# Altium footprint library ErkitPackage.PcbLib: 46 footprints (part 2 of 3)
Each footprint in its own frame and in the unit in brackets; x right, y up, seen from the top. Pads: shape width x height; smd on the part's side, far side on the other; paste and mask are expansions set on the pad; w line width, h text height; cw(c..) or ccw(c..) is an arc to the next point about the centre after c.
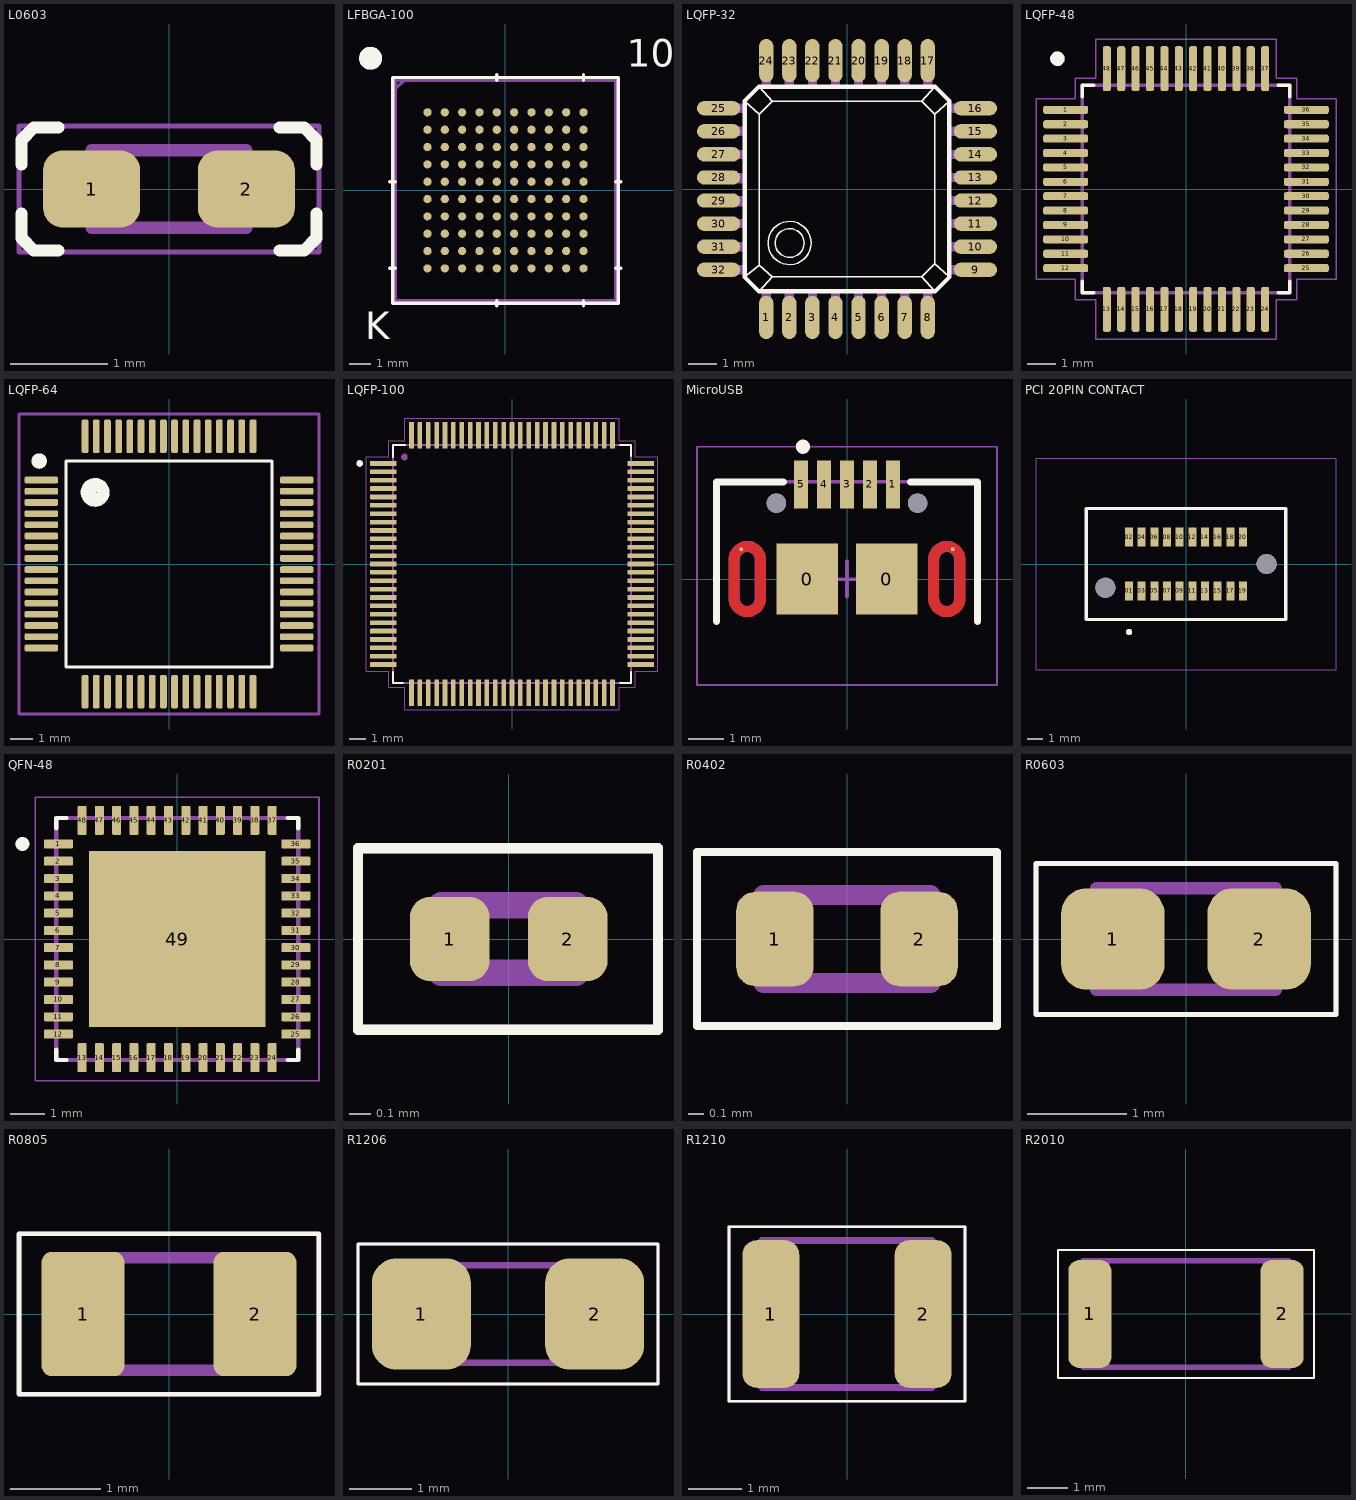
[diagram p1: the footprints below, top view; thin cyan lines are the x and y axes]

## L0603 [mm]
pads (2):
  rrect50% 1x0.8 smd: 1(-0.8,0) 2(0.8,0)
Top Overlay:
  lines w0.127: -1.524,-0.254 -1.524,-0.508 -1.397,-0.635 -1.143,-0.635 ; -1.524,0.254 -1.524,0.508 -1.397,0.635 -1.143,0.635 ; 1.143,-0.635 1.397,-0.635 1.524,-0.508 1.524,-0.254 ; 1.143,0.635 1.397,0.635 1.524,0.508 1.524,0.254
Mechanical 13:
  lines w0.127: -0.8,-0.4 0.8,-0.4 0.8,0.4 -0.8,0.4 -0.8,-0.4
Mechanical 15:
  lines w0.05: -1.55,-0.65 1.55,-0.65 1.55,0.65 -1.55,0.65 -1.55,-0.65
3D body "step_temp.STEP": height 0.95, standoff 0, extent -0.8,-0.4 0.8,0.4

## LFBGA-100 [mm]
pads (100):
  round 0.381 smd: A1(-3.6,3.6) A2(-2.8,3.6) A3(-2,3.6) A4(-1.2,3.6) A5(-0.4,3.6) A6(0.4,3.6) A7(1.2,3.6) A8(2,3.6) A9(2.8,3.6) A10(3.6,3.6) B1(-3.6,2.8) B2(-2.8,2.8) B3(-2,2.8) B4(-1.2,2.8) B5(-0.4,2.8) B6(0.4,2.8) B7(1.2,2.8) B8(2,2.8) B9(2.8,2.8) B10(3.6,2.8) C1(-3.6,2) C2(-2.8,2) C3(-2,2) C4(-1.2,2) C5(-0.4,2) C6(0.4,2) C7(1.2,2) C8(2,2) C9(2.8,2) C10(3.6,2) D1(-3.6,1.2) D2(-2.8,1.2) D3(-2,1.2) D4(-1.2,1.2) D5(-0.4,1.2) D6(0.4,1.2) D7(1.2,1.2) D8(2,1.2) D9(2.8,1.2) D10(3.6,1.2) E1(-3.6,0.4) E2(-2.8,0.4) E3(-2,0.4) E4(-1.2,0.4) E5(-0.4,0.4) E6(0.4,0.4) E7(1.2,0.4) E8(2,0.4) E9(2.8,0.4) E10(3.6,0.4) F1(-3.6,-0.4) F2(-2.8,-0.4) F3(-2,-0.4) F4(-1.2,-0.4) F5(-0.4,-0.4) F6(0.4,-0.4) F7(1.2,-0.4) F8(2,-0.4) F9(2.8,-0.4) F10(3.6,-0.4) G1(-3.6,-1.2) G2(-2.8,-1.2) G3(-2,-1.2) G4(-1.2,-1.2) G5(-0.4,-1.2) G6(0.4,-1.2) G7(1.2,-1.2) G8(2,-1.2) G9(2.8,-1.2) G10(3.6,-1.2) H1(-3.6,-2) H2(-2.8,-2) H3(-2,-2) H4(-1.2,-2) H5(-0.4,-2) H6(0.4,-2) H7(1.2,-2) H8(2,-2) H9(2.8,-2) H10(3.6,-2) J1(-3.6,-2.8) J2(-2.8,-2.8) J3(-2,-2.8) J4(-1.2,-2.8) J5(-0.4,-2.8) J6(0.4,-2.8) J7(1.2,-2.8) J8(2,-2.8) J9(2.8,-2.8) J10(3.6,-2.8) K1(-3.6,-3.6) K2(-2.8,-3.6) K3(-2,-3.6) K4(-1.2,-3.6) K5(-0.4,-3.6) K6(0.4,-3.6) K7(1.2,-3.6) K8(2,-3.6) K9(2.8,-3.6) K10(3.6,-3.6)
Top Overlay:
  circle w0.254: c-6.223,6.096 r0.127
  circle w0.254: c-6.223,6.096 r0.254
  circle w0.254: c-6.223,6.096 r0.402
  lines w0.152: -5.334,-3.6 -5.08,-3.6 ; -5.334,0.4 -5.08,0.4 ; -0.4,-5.334 -0.4,-5.08 ; -0.4,5.08 -0.4,5.334 ; 3.6,-5.334 3.6,-5.08 ; 3.6,5.08 3.6,5.334 ; 5.08,-3.6 5.334,-3.6 ; 5.08,0.4 5.334,0.4 ; -5.207,-5.207 5.207,-5.207 5.207,5.207 -5.207,5.207 -5.207,-5.207
  text "10" at 5.588,5.715 h1.27
  text "K" at -6.477,-6.858 h1.27
Mechanical 13:
  circle w0.254: c-6.223,6.096 r0.127
  circle w0.254: c-6.223,6.096 r0.254
  circle w0.254: c-6.223,6.096 r0.402
  lines w0.152: -5.08,4.68 -4.68,5.08 ; -5.08,-5.08 5.08,-5.08 5.08,5.08 -5.08,5.08 -5.08,-5.08
  text "10" at 5.588,5.715 h1.27
  text "K" at -6.477,-6.858 h1.27
3D body "step_temp.STEP": height 1.7, standoff 0, extent -5,-5 5,5

## LQFP-32 [mm]
pads (32):
  oval 0.5x1.5 smd: 1(-2.8,-4.45) 2(-2,-4.45) 3(-1.2,-4.45) 4(-0.4,-4.45) 5(0.4,-4.45) 6(1.2,-4.45) 7(2,-4.45) 8(2.8,-4.45) 17(2.8,4.45) 18(2,4.45) 19(1.2,4.45) 20(0.4,4.45) 21(-0.4,4.45) 22(-1.2,4.45) 23(-2,4.45) 24(-2.8,4.45)
  oval 1.5x0.5 smd: 9(4.45,-2.8) 10(4.45,-2) 11(4.45,-1.2) 12(4.45,-0.4) 13(4.45,0.4) 14(4.45,1.2) 15(4.45,2) 16(4.45,2.8) 25(-4.45,2.8) 26(-4.45,2) 27(-4.45,1.2) 28(-4.45,0.4) 29(-4.45,-0.4) 30(-4.45,-1.2) 31(-4.45,-2) 32(-4.45,-2.8)
Top Overlay:
  circle w0.051: c-1.99,-1.871 r0.5
  circle w0.051: c-1.99,-1.871 r0.75
  lines w0.051: -3.55,-3.05 -3.05,-2.65 ; -3.55,3.05 -3.05,2.59 ; -3.05,-3.55 -2.59,-3.05 ; -3.05,3.55 -2.59,3.05 ; 3.05,-3.55 2.59,-3.05 ; 3.05,3.55 2.59,3.05 ; 3.55,-3.05 3.05,-2.59 ; 3.55,3.05 3.05,2.59 ; -3.05,-2.65 -2.59,-3.05 ; -3.05,-2.65 -3.05,2.59 ; -3.05,2.59 -2.59,3.05 ; -2.59,-3.05 2.59,-3.05 ; -2.59,3.05 2.59,3.05 ; 2.59,-3.05 3.05,-2.59 ; 2.59,3.05 3.05,2.59 ; 3.05,-2.59 3.05,2.59
  lines w0.152: -3.55,-3.05 -3.55,3.05 -3.05,3.55 3.05,3.55 3.55,3.05 3.55,-3.05 3.05,-3.55 -3.05,-3.55 -3.55,-3.05
Mechanical 13:
  region: -3.55,2.65 -4.5,2.65 -4.5,2.95 -3.55,2.95
  region: -3.55,1.85 -4.5,1.85 -4.5,2.15 -3.55,2.15
  region: -3.55,1.05 -4.5,1.05 -4.5,1.35 -3.55,1.35
  region: -3.55,0.2 -4.5,0.2 -4.5,0.55 -3.55,0.55
  region: -3.55,-0.6 -4.5,-0.6 -4.5,-0.25 -3.55,-0.25
  region: -3.55,-1.35 -4.5,-1.35 -4.5,-1.05 -3.55,-1.05
  region: -3.55,-2.15 -4.5,-2.15 -4.5,-1.85 -3.55,-1.85
  region: -3.55,-2.95 -4.5,-2.95 -4.5,-2.65 -3.55,-2.65
  region: -2.65,-4.5 -2.95,-4.5 -2.95,-3.55 -2.65,-3.55
  region: -1.85,-4.5 -2.15,-4.5 -2.15,-3.55 -1.85,-3.55
  region: -1.05,-4.5 -1.35,-4.5 -1.35,-3.55 -1.05,-3.55
  region: -0.25,-4.5 -0.55,-4.5 -0.55,-3.55 -0.25,-3.55
  region: 0.55,-4.5 0.25,-4.5 0.25,-3.55 0.55,-3.55
  region: 1.35,-4.5 1.05,-4.5 1.05,-3.55 1.35,-3.55
  region: 2.15,-4.5 1.85,-4.5 1.85,-3.55 2.15,-3.55
  region: 2.95,-4.5 2.65,-4.5 2.65,-3.55 2.95,-3.55
  region: 4.5,-2.95 3.55,-2.95 3.55,-2.65 4.5,-2.65
  region: 4.5,-2.15 3.55,-2.15 3.55,-1.85 4.5,-1.85
  region: 4.5,-1.35 3.55,-1.35 3.55,-1.05 4.5,-1.05
  region: 4.5,-0.55 3.55,-0.55 3.55,-0.25 4.5,-0.25
  region: 4.5,0.25 3.55,0.25 3.55,0.55 4.5,0.55
  region: 4.5,1.05 3.55,1.05 3.55,1.35 4.5,1.35
  region: 4.5,1.85 3.55,1.85 3.55,2.15 4.5,2.15
  region: 4.5,2.65 3.55,2.65 3.55,2.95 4.5,2.95
  region: 2.95,3.55 2.65,3.55 2.65,4.5 2.95,4.5
  region: 2.15,3.55 1.85,3.55 1.85,4.5 2.15,4.5
  region: 1.35,3.55 1.05,3.55 1.05,4.5 1.35,4.5
  region: 0.55,3.55 0.25,3.55 0.25,4.5 0.55,4.5
  region: -0.25,3.55 -0.55,3.55 -0.55,4.5 -0.25,4.5
  region: -1.05,3.55 -1.35,3.55 -1.35,4.5 -1.05,4.5
  region: -1.85,3.55 -2.15,3.55 -2.15,4.5 -1.85,4.5
  region: -2.65,3.55 -2.95,3.55 -2.95,4.5 -2.65,4.5
3D body "step_temp.STEP": height 1.61, standoff 0.01, extent -4.5,-4.5 4.5,4.5

## LQFP-48 [mm]
pads (48):
  rrect50% 1.56x0.28 smd: 1(-4.18,2.75) 2(-4.18,2.25) 3(-4.18,1.75) 4(-4.18,1.25) 5(-4.18,0.75) 6(-4.18,0.25) 7(-4.18,-0.25) 8(-4.18,-0.75) 9(-4.18,-1.25) 10(-4.18,-1.75) 11(-4.18,-2.25) 12(-4.18,-2.75) 25(4.18,-2.75) 26(4.18,-2.25) 27(4.18,-1.75) 28(4.18,-1.25) 29(4.18,-0.75) 30(4.18,-0.25) 31(4.18,0.25) 32(4.18,0.75) 33(4.18,1.25) 34(4.18,1.75) 35(4.18,2.25) 36(4.18,2.75)
  rrect50% 0.28x1.56 smd: 13(-2.75,-4.18) 14(-2.25,-4.18) 15(-1.75,-4.18) 16(-1.25,-4.18) 17(-0.75,-4.18) 18(-0.25,-4.18) 19(0.25,-4.18) 20(0.75,-4.18) 21(1.25,-4.18) 22(1.75,-4.18) 23(2.25,-4.18) 24(2.75,-4.18) 37(2.75,4.18) 38(2.25,4.18) 39(1.75,4.18) 40(1.25,4.18) 41(0.75,4.18) 42(0.25,4.18) 43(-0.25,4.18) 44(-0.75,4.18) 45(-1.25,4.18) 46(-1.75,4.18) 47(-2.25,4.18) 48(-2.75,4.18)
Top Overlay:
  circle w0.2: c-4.467,4.526 r0.15
  circle w0.2: c-4.47,4.52 r0.098
  lines w0.127: -3.6,-3.21 -3.6,-3.6 -3.21,-3.6 ; -3.6,3.21 -3.6,3.6 -3.21,3.6 ; 3.21,-3.6 3.6,-3.6 3.6,-3.21 ; 3.21,3.6 3.6,3.6 3.6,3.21
Mechanical 13:
  circle w0.2: c-4.467,4.526 r0.15
  circle w0.2: c-4.47,4.522 r0.091
  lines w0.127: -3.6,-3.6 3.6,-3.6 3.6,3.6 -3.6,3.6 -3.6,-3.6
Mechanical 15:
  lines w0.05: -5.21,-3.14 -3.85,-3.14 -3.85,-3.85 -3.14,-3.85 -3.14,-5.21 3.14,-5.21 3.14,-3.85 3.85,-3.85 3.85,-3.14 5.21,-3.14 5.21,3.14 3.85,3.14 3.85,3.85 3.14,3.85 3.14,5.21 -3.14,5.21 -3.14,3.85 -3.85,3.85 -3.85,3.14 -5.21,3.14 -5.21,-3.14
3D body "step_temp.STEP": height 1.6, standoff 0, extent -4.5,-4.5 4.5,4.5

## LQFP-64 [mm]
pads (64):
  rrect50% 1.5x0.3 smd: 1(-5.7,3.75) 2(-5.7,3.25) 3(-5.7,2.75) 4(-5.7,2.25) 5(-5.7,1.75) 6(-5.7,1.25) 7(-5.7,0.75) 8(-5.7,0.25) 9(-5.7,-0.25) 10(-5.7,-0.75) 11(-5.7,-1.25) 12(-5.7,-1.75) 13(-5.7,-2.25) 14(-5.7,-2.75) 15(-5.7,-3.25) 16(-5.7,-3.75) 33(5.7,-3.75) 34(5.7,-3.25) 35(5.7,-2.75) 36(5.7,-2.25) 37(5.7,-1.75) 38(5.7,-1.25) 39(5.7,-0.75) 40(5.7,-0.25) 41(5.7,0.25) 42(5.7,0.75) 43(5.7,1.25) 44(5.7,1.75) 45(5.7,2.25) 46(5.7,2.75) 47(5.7,3.25) 48(5.7,3.75)
  rrect50% 0.3x1.5 smd: 17(-3.75,-5.7) 18(-3.25,-5.7) 19(-2.75,-5.7) 20(-2.25,-5.7) 21(-1.75,-5.7) 22(-1.25,-5.7) 23(-0.75,-5.7) 24(-0.25,-5.7) 25(0.25,-5.7) 26(0.75,-5.7) 27(1.25,-5.7) 28(1.75,-5.7) 29(2.25,-5.7) 30(2.75,-5.7) 31(3.25,-5.7) 32(3.75,-5.7) 49(3.75,5.7) 50(3.25,5.7) 51(2.75,5.7) 52(2.25,5.7) 53(1.75,5.7) 54(1.25,5.7) 55(0.75,5.7) 56(0.25,5.7) 57(-0.25,5.7) 58(-0.75,5.7) 59(-1.25,5.7) 60(-1.75,5.7) 61(-2.25,5.7) 62(-2.75,5.7) 63(-3.25,5.7) 64(-3.75,5.7)
Top Overlay:
  circle w0.127: c-3.3,3.2 r0.583
  circle w0.127: c-3.3,3.2 r0.566
  circle w0.127: c-3.3,3.2 r0.5
  circle w0.127: c-3.3,3.2 r0.424
  circle w0.127: c-3.3,3.2 r0.283
  circle w0.127: c-3.3,3.2 r0.361
  circle w0.127: c-3.3,3.2 r0.141
  circle w0.127: c-3.3,3.2 r0.224
  circle w0.127: c-3.4,3.2 r0.1
  circle w0.127: c-5.8,4.6 r0.283
  circle w0.127: c-5.8,4.6 r0.224
  circle w0.127: c-5.8,4.6 r0.141
  circle w0.127: c-5.8,4.6 r0.1
  circle w0.127: c-5.8,4.6 r0.141
  circle w0.127: c-5.9,4.6 r0.1
  lines w0.127: -4.6,-4.6 4.6,-4.6 4.6,4.6 -4.6,4.6 -4.6,-4.6
Mechanical 15:
  lines w0.127: -6.7,-6.7 6.7,-6.7 6.7,6.7 -6.7,6.7 -6.7,-6.7
3D body "User Library-STM32F107 -LQFP64 10mm x 10mm.STEP": height 1.6, standoff 0.01, extent -5.999,-5.999 5.999,5.999

## LQFP-100 [mm]
pads (100):
  rrect7% 1.56x0.28 smd: 1(-7.68,6) 2(-7.68,5.5) 3(-7.68,5) 4(-7.68,4.5) 5(-7.68,4) 6(-7.68,3.5) 7(-7.68,3) 8(-7.68,2.5) 9(-7.68,2) 10(-7.68,1.5) 11(-7.68,1) 12(-7.68,0.5) 13(-7.68,0) 14(-7.68,-0.5) 15(-7.68,-1) 16(-7.68,-1.5) 17(-7.68,-2) 18(-7.68,-2.5) 19(-7.68,-3) 20(-7.68,-3.5) 21(-7.68,-4) 22(-7.68,-4.5) 23(-7.68,-5) 24(-7.68,-5.5) 25(-7.68,-6) 51(7.68,-6) 52(7.68,-5.5) 53(7.68,-5) 54(7.68,-4.5) 55(7.68,-4) 56(7.68,-3.5) 57(7.68,-3) 58(7.68,-2.5) 59(7.68,-2) 60(7.68,-1.5) 61(7.68,-1) 62(7.68,-0.5) 63(7.68,0) 64(7.68,0.5) 65(7.68,1) 66(7.68,1.5) 67(7.68,2) 68(7.68,2.5) 69(7.68,3) 70(7.68,3.5) 71(7.68,4) 72(7.68,4.5) 73(7.68,5) 74(7.68,5.5) 75(7.68,6)
  rrect7% 0.28x1.56 smd: 26(-6,-7.68) 27(-5.5,-7.68) 28(-5,-7.68) 29(-4.5,-7.68) 30(-4,-7.68) 31(-3.5,-7.68) 32(-3,-7.68) 33(-2.5,-7.68) 34(-2,-7.68) 35(-1.5,-7.68) 36(-1,-7.68) 37(-0.5,-7.68) 38(0,-7.68) 39(0.5,-7.68) 40(1,-7.68) 41(1.5,-7.68) 42(2,-7.68) 43(2.5,-7.68) 44(3,-7.68) 45(3.5,-7.68) 46(4,-7.68) 47(4.5,-7.68) 48(5,-7.68) 49(5.5,-7.68) 50(6,-7.68) 76(6,7.68) 77(5.5,7.68) 78(5,7.68) 79(4.5,7.68) 80(4,7.68) 81(3.5,7.68) 82(3,7.68) 83(2.5,7.68) 84(2,7.68) 85(1.5,7.68) 86(1,7.68) 87(0.5,7.68) 88(0,7.68) 89(-0.5,7.68) 90(-1,7.68) 91(-1.5,7.68) 92(-2,7.68) 93(-2.5,7.68) 94(-3,7.68) 95(-3.5,7.68) 96(-4,7.68) 97(-4.5,7.68) 98(-5,7.68) 99(-5.5,7.68) 100(-6,7.68)
Top Overlay:
  circle w0.2: c-9.09,6 r0.1
  lines w0.127: -7.1,-6.45 -7.1,-7.1 -6.5,-7.1 ; -7.1,6.4 -7.1,7.1 -6.4,7.1 ; 6.45,-7.1 7.1,-7.1 7.1,-6.45 ; 6.45,7.1 7.1,7.1 7.1,6.45
Mechanical 13:
  circle w0.2: c-6.423,6.381 r0.1
  lines w0.127: -7.1,-7.1 7.1,-7.1 7.1,7.1 -7.1,7.1 -7.1,-7.1
Mechanical 15:
  lines w0.05: -8.71,-6.39 -8.71,6.39 -7.35,6.39 -7.35,7.35 -6.39,7.35 -6.39,8.71 6.39,8.71 6.39,7.35 7.35,7.35 7.35,6.39 8.71,6.39 8.71,-6.39 7.35,-6.39 7.35,-7.35 6.39,-7.35 6.39,-8.71 -6.39,-8.71 -6.39,-7.35 -7.35,-7.35 -7.35,-6.39 -8.71,-6.39
3D body "STM32F411VET6.STEP": height 1.58, standoff -0.02, extent -8,-8 8,8

## MicroUSB [mm]
pads (11):
  rect 1.75x2 smd: 0(-1.125,0) 0(1.125,0)
  rect 0.4x1.35 smd: 1(1.3,2.68) 2(0.65,2.68) 3(0,2.68) 4(-0.65,2.68) 5(-1.3,2.68)
  rect 0.1x0.1 smd paste-1 mask+0: 6(-3,0.85) 7(3,0.85)
  round 0.55 hole 0.55 unplated: ""(-2,2.15) ""(2,2.15)
Top Layer:
  region: 3.35,-0.55 3.349,-0.577 3.347,-0.605 3.344,-0.632 3.339,-0.659 3.332,-0.686 3.324,-0.712 3.315,-0.738 3.305,-0.764 3.293,-0.788 3.28,-0.813 3.265,-0.836 3.25,-0.859 3.233,-0.88 3.215,-0.901 3.196,-0.921 3.176,-0.94 3.155,-0.958 3.134,-0.975 3.111,-0.99 3.087,-1.005 3.063,-1.018 3.039,-1.03 3.013,-1.04 2.987,-1.049 2.961,-1.057 2.934,-1.064 2.907,-1.069 2.88,-1.072 2.852,-1.074 2.825,-1.075 2.798,-1.074 2.77,-1.072 2.743,-1.069 2.716,-1.064 2.689,-1.057 2.663,-1.049 2.637,-1.04 2.611,-1.03 2.587,-1.018 2.562,-1.005 2.539,-0.99 2.516,-0.975 2.495,-0.958 2.474,-0.94 2.454,-0.921 2.435,-0.901 2.417,-0.88 2.4,-0.859 2.385,-0.836 2.37,-0.813 2.357,-0.788 2.345,-0.764 2.335,-0.738 2.326,-0.712 2.318,-0.686 2.311,-0.659 2.306,-0.632 2.303,-0.605 2.301,-0.577 2.3,-0.55 2.3,0 2.6,0 2.6,-0.55 2.6,-0.562 2.601,-0.574 2.603,-0.585 2.605,-0.597 2.608,-0.608 2.611,-0.62 2.615,-0.631 2.619,-0.642 2.625,-0.652 2.63,-0.663 2.636,-0.673 2.643,-0.682 2.65,-0.692 2.658,-0.701 2.666,-0.709 2.674,-0.717 2.683,-0.725 2.693,-0.732 2.702,-0.739 2.712,-0.745 2.723,-0.75 2.733,-0.756 2.744,-0.76 2.755,-0.764 2.767,-0.767 2.778,-0.77 2.79,-0.772 2.801,-0.774 2.813,-0.775 2.825,-0.775 2.837,-0.775 2.849,-0.774 2.86,-0.772 2.872,-0.77 2.883,-0.767 2.895,-0.764 2.906,-0.76 2.917,-0.756 2.927,-0.75 2.937,-0.745 2.948,-0.739 2.957,-0.732 2.967,-0.725 2.976,-0.717 2.984,-0.709 2.992,-0.701 3,-0.692 3.007,-0.682 3.014,-0.673 3.02,-0.663 3.025,-0.652 3.031,-0.642 3.035,-0.631 3.039,-0.62 3.042,-0.608 3.045,-0.597 3.047,-0.585 3.049,-0.574 3.05,-0.562 3.05,-0.55 3.05,0 3.35,0
  region: 2.852,1.074 2.88,1.072 2.907,1.069 2.934,1.064 2.961,1.057 2.987,1.049 3.013,1.04 3.039,1.03 3.063,1.018 3.087,1.005 3.111,0.99 3.134,0.975 3.155,0.958 3.176,0.94 3.196,0.921 3.215,0.901 3.233,0.88 3.25,0.859 3.265,0.836 3.28,0.813 3.293,0.788 3.305,0.764 3.315,0.738 3.324,0.712 3.332,0.686 3.339,0.659 3.344,0.632 3.347,0.605 3.349,0.577 3.35,0.55 3.35,0 3.05,0 3.05,0.55 3.05,0.562 3.049,0.574 3.047,0.585 3.045,0.597 3.042,0.608 3.039,0.62 3.035,0.631 3.031,0.642 3.025,0.652 3.02,0.663 3.014,0.673 3.007,0.682 3,0.692 2.992,0.701 2.984,0.709 2.976,0.717 2.967,0.725 2.957,0.732 2.948,0.739 2.937,0.745 2.927,0.75 2.917,0.756 2.906,0.76 2.895,0.764 2.883,0.767 2.872,0.77 2.86,0.772 2.849,0.774 2.837,0.775 2.825,0.775 2.813,0.775 2.801,0.774 2.79,0.772 2.778,0.77 2.767,0.767 2.755,0.764 2.744,0.76 2.733,0.756 2.723,0.75 2.712,0.745 2.702,0.739 2.693,0.732 2.683,0.725 2.674,0.717 2.666,0.709 2.658,0.701 2.65,0.692 2.643,0.682 2.636,0.673 2.63,0.663 2.625,0.652 2.619,0.642 2.615,0.631 2.611,0.62 2.608,0.608 2.605,0.597 2.603,0.585 2.601,0.574 2.6,0.562 2.6,0.55 2.6,0 2.3,0 2.3,0.55 2.301,0.577 2.303,0.605 2.306,0.632 2.311,0.659 2.318,0.686 2.326,0.712 2.335,0.738 2.345,0.764 2.357,0.788 2.37,0.813 2.385,0.836 2.4,0.859 2.417,0.88 2.435,0.901 2.454,0.921 2.474,0.94 2.495,0.958 2.516,0.975 2.539,0.99 2.562,1.005 2.587,1.018 2.611,1.03 2.637,1.04 2.663,1.049 2.689,1.057 2.716,1.064 2.743,1.069 2.77,1.072 2.798,1.074 2.825,1.075
  region: -2.3,-0.55 -2.301,-0.577 -2.303,-0.605 -2.306,-0.632 -2.311,-0.659 -2.318,-0.686 -2.326,-0.712 -2.335,-0.738 -2.345,-0.764 -2.357,-0.788 -2.37,-0.813 -2.385,-0.836 -2.4,-0.859 -2.417,-0.88 -2.435,-0.901 -2.454,-0.921 -2.474,-0.94 -2.495,-0.958 -2.516,-0.975 -2.539,-0.99 -2.562,-1.005 -2.587,-1.018 -2.611,-1.03 -2.637,-1.04 -2.663,-1.049 -2.689,-1.057 -2.716,-1.064 -2.743,-1.069 -2.77,-1.072 -2.798,-1.074 -2.825,-1.075 -2.852,-1.074 -2.88,-1.072 -2.907,-1.069 -2.934,-1.064 -2.961,-1.057 -2.987,-1.049 -3.013,-1.04 -3.039,-1.03 -3.063,-1.018 -3.087,-1.005 -3.111,-0.99 -3.134,-0.975 -3.155,-0.958 -3.176,-0.94 -3.196,-0.921 -3.215,-0.901 -3.233,-0.88 -3.25,-0.859 -3.265,-0.836 -3.28,-0.813 -3.293,-0.788 -3.305,-0.764 -3.315,-0.738 -3.324,-0.712 -3.332,-0.686 -3.339,-0.659 -3.344,-0.632 -3.347,-0.605 -3.349,-0.577 -3.35,-0.55 -3.35,0 -3.05,0 -3.05,-0.55 -3.05,-0.562 -3.049,-0.574 -3.047,-0.585 -3.045,-0.597 -3.042,-0.608 -3.039,-0.62 -3.035,-0.631 -3.031,-0.642 -3.025,-0.652 -3.02,-0.663 -3.014,-0.673 -3.007,-0.682 -3,-0.692 -2.992,-0.701 -2.984,-0.709 -2.976,-0.717 -2.967,-0.725 -2.957,-0.732 -2.948,-0.739 -2.937,-0.745 -2.927,-0.75 -2.917,-0.756 -2.906,-0.76 -2.895,-0.764 -2.883,-0.767 -2.872,-0.77 -2.86,-0.772 -2.849,-0.774 -2.837,-0.775 -2.825,-0.775 -2.813,-0.775 -2.801,-0.774 -2.79,-0.772 -2.778,-0.77 -2.767,-0.767 -2.755,-0.764 -2.744,-0.76 -2.733,-0.756 -2.723,-0.75 -2.712,-0.745 -2.702,-0.739 -2.693,-0.732 -2.683,-0.725 -2.674,-0.717 -2.666,-0.709 -2.658,-0.701 -2.65,-0.692 -2.643,-0.682 -2.636,-0.673 -2.63,-0.663 -2.625,-0.652 -2.619,-0.642 -2.615,-0.631 -2.611,-0.62 -2.608,-0.608 -2.605,-0.597 -2.603,-0.585 -2.601,-0.574 -2.6,-0.562 -2.6,-0.55 -2.6,0 -2.3,0
  region: -2.798,1.074 -2.77,1.072 -2.743,1.069 -2.716,1.064 -2.689,1.057 -2.663,1.049 -2.637,1.04 -2.611,1.03 -2.587,1.018 -2.562,1.005 -2.539,0.99 -2.516,0.975 -2.495,0.958 -2.474,0.94 -2.454,0.921 -2.435,0.901 -2.417,0.88 -2.4,0.859 -2.385,0.836 -2.37,0.813 -2.357,0.788 -2.345,0.764 -2.335,0.738 -2.326,0.712 -2.318,0.686 -2.311,0.659 -2.306,0.632 -2.303,0.605 -2.301,0.577 -2.3,0.55 -2.3,0 -2.6,0 -2.6,0.55 -2.6,0.562 -2.601,0.574 -2.603,0.585 -2.605,0.597 -2.608,0.608 -2.611,0.62 -2.615,0.631 -2.619,0.642 -2.625,0.652 -2.63,0.663 -2.636,0.673 -2.643,0.682 -2.65,0.692 -2.658,0.701 -2.666,0.709 -2.674,0.717 -2.683,0.725 -2.693,0.732 -2.702,0.739 -2.712,0.745 -2.723,0.75 -2.733,0.756 -2.744,0.76 -2.755,0.764 -2.767,0.767 -2.778,0.77 -2.79,0.772 -2.801,0.774 -2.813,0.775 -2.825,0.775 -2.837,0.775 -2.849,0.774 -2.86,0.772 -2.872,0.77 -2.883,0.767 -2.895,0.764 -2.906,0.76 -2.917,0.756 -2.927,0.75 -2.937,0.745 -2.948,0.739 -2.957,0.732 -2.967,0.725 -2.976,0.717 -2.984,0.709 -2.992,0.701 -3,0.692 -3.007,0.682 -3.014,0.673 -3.02,0.663 -3.025,0.652 -3.031,0.642 -3.035,0.631 -3.039,0.62 -3.042,0.608 -3.045,0.597 -3.047,0.585 -3.049,0.574 -3.05,0.562 -3.05,0.55 -3.05,0 -3.35,0 -3.35,0.55 -3.349,0.577 -3.347,0.605 -3.344,0.632 -3.339,0.659 -3.332,0.686 -3.324,0.712 -3.315,0.738 -3.305,0.764 -3.293,0.788 -3.28,0.813 -3.265,0.836 -3.25,0.859 -3.233,0.88 -3.215,0.901 -3.196,0.921 -3.176,0.94 -3.155,0.958 -3.134,0.975 -3.111,0.99 -3.087,1.005 -3.063,1.018 -3.039,1.03 -3.013,1.04 -2.987,1.049 -2.961,1.057 -2.934,1.064 -2.907,1.069 -2.88,1.072 -2.852,1.074 -2.825,1.075
Bottom Layer:
  region: 3.35,-0.55 3.349,-0.577 3.347,-0.605 3.344,-0.632 3.339,-0.659 3.332,-0.686 3.324,-0.712 3.315,-0.738 3.305,-0.764 3.293,-0.788 3.28,-0.813 3.265,-0.836 3.25,-0.859 3.233,-0.88 3.215,-0.901 3.196,-0.921 3.176,-0.94 3.155,-0.958 3.134,-0.975 3.111,-0.99 3.087,-1.005 3.063,-1.018 3.039,-1.03 3.013,-1.04 2.987,-1.049 2.961,-1.057 2.934,-1.064 2.907,-1.069 2.88,-1.072 2.852,-1.074 2.825,-1.075 2.798,-1.074 2.77,-1.072 2.743,-1.069 2.716,-1.064 2.689,-1.057 2.663,-1.049 2.637,-1.04 2.611,-1.03 2.587,-1.018 2.562,-1.005 2.539,-0.99 2.516,-0.975 2.495,-0.958 2.474,-0.94 2.454,-0.921 2.435,-0.901 2.417,-0.88 2.4,-0.859 2.385,-0.836 2.37,-0.813 2.357,-0.788 2.345,-0.764 2.335,-0.738 2.326,-0.712 2.318,-0.686 2.311,-0.659 2.306,-0.632 2.303,-0.605 2.301,-0.577 2.3,-0.55 2.3,0 2.6,0 2.6,-0.55 2.6,-0.562 2.601,-0.574 2.603,-0.585 2.605,-0.597 2.608,-0.608 2.611,-0.62 2.615,-0.631 2.619,-0.642 2.625,-0.652 2.63,-0.663 2.636,-0.673 2.643,-0.682 2.65,-0.692 2.658,-0.701 2.666,-0.709 2.674,-0.717 2.683,-0.725 2.693,-0.732 2.702,-0.739 2.712,-0.745 2.723,-0.75 2.733,-0.756 2.744,-0.76 2.755,-0.764 2.767,-0.767 2.778,-0.77 2.79,-0.772 2.801,-0.774 2.813,-0.775 2.825,-0.775 2.837,-0.775 2.849,-0.774 2.86,-0.772 2.872,-0.77 2.883,-0.767 2.895,-0.764 2.906,-0.76 2.917,-0.756 2.927,-0.75 2.937,-0.745 2.948,-0.739 2.957,-0.732 2.967,-0.725 2.976,-0.717 2.984,-0.709 2.992,-0.701 3,-0.692 3.007,-0.682 3.014,-0.673 3.02,-0.663 3.025,-0.652 3.031,-0.642 3.035,-0.631 3.039,-0.62 3.042,-0.608 3.045,-0.597 3.047,-0.585 3.049,-0.574 3.05,-0.562 3.05,-0.55 3.05,0 3.35,0
  region: 2.852,1.074 2.88,1.072 2.907,1.069 2.934,1.064 2.961,1.057 2.987,1.049 3.013,1.04 3.039,1.03 3.063,1.018 3.087,1.005 3.111,0.99 3.134,0.975 3.155,0.958 3.176,0.94 3.196,0.921 3.215,0.901 3.233,0.88 3.25,0.859 3.265,0.836 3.28,0.813 3.293,0.788 3.305,0.764 3.315,0.738 3.324,0.712 3.332,0.686 3.339,0.659 3.344,0.632 3.347,0.605 3.349,0.577 3.35,0.55 3.35,0 3.05,0 3.05,0.55 3.05,0.562 3.049,0.574 3.047,0.585 3.045,0.597 3.042,0.608 3.039,0.62 3.035,0.631 3.031,0.642 3.025,0.652 3.02,0.663 3.014,0.673 3.007,0.682 3,0.692 2.992,0.701 2.984,0.709 2.976,0.717 2.967,0.725 2.957,0.732 2.948,0.739 2.937,0.745 2.927,0.75 2.917,0.756 2.906,0.76 2.895,0.764 2.883,0.767 2.872,0.77 2.86,0.772 2.849,0.774 2.837,0.775 2.825,0.775 2.813,0.775 2.801,0.774 2.79,0.772 2.778,0.77 2.767,0.767 2.755,0.764 2.744,0.76 2.733,0.756 2.723,0.75 2.712,0.745 2.702,0.739 2.693,0.732 2.683,0.725 2.674,0.717 2.666,0.709 2.658,0.701 2.65,0.692 2.643,0.682 2.636,0.673 2.63,0.663 2.625,0.652 2.619,0.642 2.615,0.631 2.611,0.62 2.608,0.608 2.605,0.597 2.603,0.585 2.601,0.574 2.6,0.562 2.6,0.55 2.6,0 2.3,0 2.3,0.55 2.301,0.577 2.303,0.605 2.306,0.632 2.311,0.659 2.318,0.686 2.326,0.712 2.335,0.738 2.345,0.764 2.357,0.788 2.37,0.813 2.385,0.836 2.4,0.859 2.417,0.88 2.435,0.901 2.454,0.921 2.474,0.94 2.495,0.958 2.516,0.975 2.539,0.99 2.562,1.005 2.587,1.018 2.611,1.03 2.637,1.04 2.663,1.049 2.689,1.057 2.716,1.064 2.743,1.069 2.77,1.072 2.798,1.074 2.825,1.075
  region: -2.3,-0.55 -2.301,-0.577 -2.303,-0.605 -2.306,-0.632 -2.311,-0.659 -2.318,-0.686 -2.326,-0.712 -2.335,-0.738 -2.345,-0.764 -2.357,-0.788 -2.37,-0.813 -2.385,-0.836 -2.4,-0.859 -2.417,-0.88 -2.435,-0.901 -2.454,-0.921 -2.474,-0.94 -2.495,-0.958 -2.516,-0.975 -2.539,-0.99 -2.562,-1.005 -2.587,-1.018 -2.611,-1.03 -2.637,-1.04 -2.663,-1.049 -2.689,-1.057 -2.716,-1.064 -2.743,-1.069 -2.77,-1.072 -2.798,-1.074 -2.825,-1.075 -2.852,-1.074 -2.88,-1.072 -2.907,-1.069 -2.934,-1.064 -2.961,-1.057 -2.987,-1.049 -3.013,-1.04 -3.039,-1.03 -3.063,-1.018 -3.087,-1.005 -3.111,-0.99 -3.134,-0.975 -3.155,-0.958 -3.176,-0.94 -3.196,-0.921 -3.215,-0.901 -3.233,-0.88 -3.25,-0.859 -3.265,-0.836 -3.28,-0.813 -3.293,-0.788 -3.305,-0.764 -3.315,-0.738 -3.324,-0.712 -3.332,-0.686 -3.339,-0.659 -3.344,-0.632 -3.347,-0.605 -3.349,-0.577 -3.35,-0.55 -3.35,0 -3.05,0 -3.05,-0.55 -3.05,-0.562 -3.049,-0.574 -3.047,-0.585 -3.045,-0.597 -3.042,-0.608 -3.039,-0.62 -3.035,-0.631 -3.031,-0.642 -3.025,-0.652 -3.02,-0.663 -3.014,-0.673 -3.007,-0.682 -3,-0.692 -2.992,-0.701 -2.984,-0.709 -2.976,-0.717 -2.967,-0.725 -2.957,-0.732 -2.948,-0.739 -2.937,-0.745 -2.927,-0.75 -2.917,-0.756 -2.906,-0.76 -2.895,-0.764 -2.883,-0.767 -2.872,-0.77 -2.86,-0.772 -2.849,-0.774 -2.837,-0.775 -2.825,-0.775 -2.813,-0.775 -2.801,-0.774 -2.79,-0.772 -2.778,-0.77 -2.767,-0.767 -2.755,-0.764 -2.744,-0.76 -2.733,-0.756 -2.723,-0.75 -2.712,-0.745 -2.702,-0.739 -2.693,-0.732 -2.683,-0.725 -2.674,-0.717 -2.666,-0.709 -2.658,-0.701 -2.65,-0.692 -2.643,-0.682 -2.636,-0.673 -2.63,-0.663 -2.625,-0.652 -2.619,-0.642 -2.615,-0.631 -2.611,-0.62 -2.608,-0.608 -2.605,-0.597 -2.603,-0.585 -2.601,-0.574 -2.6,-0.562 -2.6,-0.55 -2.6,0 -2.3,0
  region: -2.798,1.074 -2.77,1.072 -2.743,1.069 -2.716,1.064 -2.689,1.057 -2.663,1.049 -2.637,1.04 -2.611,1.03 -2.587,1.018 -2.562,1.005 -2.539,0.99 -2.516,0.975 -2.495,0.958 -2.474,0.94 -2.454,0.921 -2.435,0.901 -2.417,0.88 -2.4,0.859 -2.385,0.836 -2.37,0.813 -2.357,0.788 -2.345,0.764 -2.335,0.738 -2.326,0.712 -2.318,0.686 -2.311,0.659 -2.306,0.632 -2.303,0.605 -2.301,0.577 -2.3,0.55 -2.3,0 -2.6,0 -2.6,0.55 -2.6,0.562 -2.601,0.574 -2.603,0.585 -2.605,0.597 -2.608,0.608 -2.611,0.62 -2.615,0.631 -2.619,0.642 -2.625,0.652 -2.63,0.663 -2.636,0.673 -2.643,0.682 -2.65,0.692 -2.658,0.701 -2.666,0.709 -2.674,0.717 -2.683,0.725 -2.693,0.732 -2.702,0.739 -2.712,0.745 -2.723,0.75 -2.733,0.756 -2.744,0.76 -2.755,0.764 -2.767,0.767 -2.778,0.77 -2.79,0.772 -2.801,0.774 -2.813,0.775 -2.825,0.775 -2.837,0.775 -2.849,0.774 -2.86,0.772 -2.872,0.77 -2.883,0.767 -2.895,0.764 -2.906,0.76 -2.917,0.756 -2.927,0.75 -2.937,0.745 -2.948,0.739 -2.957,0.732 -2.967,0.725 -2.976,0.717 -2.984,0.709 -2.992,0.701 -3,0.692 -3.007,0.682 -3.014,0.673 -3.02,0.663 -3.025,0.652 -3.031,0.642 -3.035,0.631 -3.039,0.62 -3.042,0.608 -3.045,0.597 -3.047,0.585 -3.049,0.574 -3.05,0.562 -3.05,0.55 -3.05,0 -3.35,0 -3.35,0.55 -3.349,0.577 -3.347,0.605 -3.344,0.632 -3.339,0.659 -3.332,0.686 -3.324,0.712 -3.315,0.738 -3.305,0.764 -3.293,0.788 -3.28,0.813 -3.265,0.836 -3.25,0.859 -3.233,0.88 -3.215,0.901 -3.196,0.921 -3.176,0.94 -3.155,0.958 -3.134,0.975 -3.111,0.99 -3.087,1.005 -3.063,1.018 -3.039,1.03 -3.013,1.04 -2.987,1.049 -2.961,1.057 -2.934,1.064 -2.907,1.069 -2.88,1.072 -2.852,1.074 -2.825,1.075
Top Overlay:
  circle w0.2: c-1.25,3.75 r0.102
  lines w0.2: -3.7,-1.2 -3.7,2.75 -1.8,2.75 ; 1.8,2.75 3.7,2.75 3.7,-1.2
Top Paste:
  drawing of 4 lines, arcs and shapes, not listed
Bottom Paste:
  drawing of 4 lines, arcs and shapes, not listed
Top Solder:
  region: 3.55,-1.302 2.104,-1.302 2.104,1.3 3.55,1.3
  region: -2.1,-1.301 -3.552,-1.301 -3.552,1.3 -2.1,1.3
Bottom Solder:
  region: 3.55,-1.3 2.1,-1.3 2.1,1.3 3.55,1.3
  region: -2.1,-1.303 -3.557,-1.303 -3.557,1.3 -2.1,1.3
Mechanical 1:
  lines w0: -3.05,-0.55 ccw(c-2.825,-0.55) -2.825,-0.775 ccw(c-2.825,-0.55) -2.6,-0.55 -2.6,0.55 ccw(c-2.825,0.55) -2.825,0.775 ccw(c-2.825,0.55) -3.05,0.55 -3.05,-0.55 ; 2.6,-0.55 ccw(c2.825,-0.55) 2.825,-0.775 ccw(c2.825,-0.55) 3.05,-0.55 3.05,0.55 ccw(c2.825,0.55) 2.825,0.775 ccw(c2.825,0.55) 2.6,0.55 2.6,-0.55
Mechanical 13:
  lines w0.1: -3.7,2.75 3.7,2.75
Mechanical 15:
  lines w0.05: -4.25,-3 -4.25,3.75 4.25,3.75 4.25,-3 -4.25,-3
  lines w0.1: -0.508,0 0.508,0 ; 0,-0.508 0,0.508
3D body "usb3080-30-01-a.stp": height 2.59, standoff -0.75, extent -3.911,-2.733 3.889,2.767

## PCI 20PIN CONTACT [mm]
pads (22):
  rect 0.5x1.2 smd: 01(-3.6,-1.7) 02(-3.6,1.7) 03(-2.8,-1.7) 04(-2.8,1.7) 05(-2,-1.7) 06(-2,1.7) 07(-1.2,-1.7) 08(-1.2,1.7) 09(-0.4,-1.7) 10(-0.4,1.7) 11(0.4,-1.7) 12(0.4,1.7) 13(1.2,-1.7) 14(1.2,1.7) 15(2,-1.7) 16(2,1.7) 17(2.8,-1.7) 18(2.8,1.7) 19(3.6,-1.7) 20(3.6,1.7)
  round 1.27 hole 1.27 unplated: ""(-5.1,-1.5) ""(5.1,0)
Top Overlay:
  circle w0.2: c-3.6,-4.3 r0.1
  lines w0.2: -6.3,-3.5 -6.3,3.5 6.3,3.5 6.3,-3.5 -6.3,-3.5
Mechanical 13:
  circle w0.2: c-3.6,-4.3 r0.1
  lines w0.1: -6.3,-3.5 -6.3,3.5 6.3,3.5 6.3,-3.5 -6.3,-3.5
Mechanical 15:
  lines w0.05: -9.48,-6.68 -9.48,6.68 9.48,6.68 9.48,-6.68 -9.48,-6.68
3D body "HTEC8-110-01-L-DV-A-K-TR.stp": height 8.13, standoff -1.3, extent -6.35,-3.5 6.25,3.5

## QFN-48 [mm]
pads (49):
  rrect25% 0.84x0.26 smd: 1(-3.435,2.75) 2(-3.435,2.25) 3(-3.435,1.75) 4(-3.435,1.25) 5(-3.435,0.75) 6(-3.435,0.25) 7(-3.435,-0.25) 8(-3.435,-0.75) 9(-3.435,-1.25) 10(-3.435,-1.75) 11(-3.435,-2.25) 12(-3.435,-2.75) 25(3.435,-2.75) 26(3.435,-2.25) 27(3.435,-1.75) 28(3.435,-1.25) 29(3.435,-0.75) 30(3.435,-0.25) 31(3.435,0.25) 32(3.435,0.75) 33(3.435,1.25) 34(3.435,1.75) 35(3.435,2.25) 36(3.435,2.75)
  rrect25% 0.26x0.84 smd: 13(-2.75,-3.435) 14(-2.25,-3.435) 15(-1.75,-3.435) 16(-1.25,-3.435) 17(-0.75,-3.435) 18(-0.25,-3.435) 19(0.25,-3.435) 20(0.75,-3.435) 21(1.25,-3.435) 22(1.75,-3.435) 23(2.25,-3.435) 24(2.75,-3.435) 37(2.75,3.435) 38(2.25,3.435) 39(1.75,3.435) 40(1.25,3.435) 41(0.75,3.435) 42(0.25,3.435) 43(-0.25,3.435) 44(-0.75,3.435) 45(-1.25,3.435) 46(-1.75,3.435) 47(-2.25,3.435) 48(-2.75,3.435)
  rect 5.1x5.1 smd paste-4: 49(0,0)
Top Overlay:
  circle w0.2: c-4.475,2.75 r0.1
  lines w0.127: -3.5,-3.2 -3.5,-3.5 -3.2,-3.5 ; -3.5,3.2 -3.5,3.5 -3.2,3.5 ; 3.2,-3.5 3.5,-3.5 3.5,-3.2 ; 3.2,3.5 3.5,3.5 3.5,3.2
Top Paste:
  region: 2.08,-2.08 0.47,-2.08 0.47,-0.47 2.08,-0.47
  region: -0.47,-2.08 -2.08,-2.08 -2.08,-0.47 -0.47,-0.47
  region: 2.08,0.47 0.47,0.47 0.47,2.08 2.08,2.08
  region: -0.47,0.47 -2.08,0.47 -2.08,2.08 -0.47,2.08
Mechanical 13:
  circle w0.2: c-4.475,2.75 r0.1
  lines w0.127: -3.5,-3.5 -3.5,3.5 3.5,3.5 3.5,-3.5 -3.5,-3.5
Mechanical 15:
  lines w0.05: -4.105,-4.105 -4.105,4.105 4.105,4.105 4.105,-4.105 -4.105,-4.105
3D body "step_temp.STEP": height 1, standoff 0, extent -3.5,-3.5 3.5,3.5

## R0201 [mm]
pads (2):
  rrect50% 0.38x0.4 smd: 1(-0.281,0) 2(0.281,0)
Top Overlay:
  lines w0.05: -0.718,-0.432 0.711,-0.432 0.711,0.432 -0.718,0.432 -0.718,-0.432
Mechanical 13:
  lines w0.127: -0.32,-0.16 0.32,-0.16 0.32,0.16 -0.32,0.16 -0.32,-0.16
Mechanical 15:
  lines w0.05: -0.718,-0.432 0.711,-0.432 0.711,0.432 -0.718,0.432 -0.718,-0.432
3D body "RC0201FR070RL.STEP": height 0.26, standoff 0, extent -0.3,-0.15 0.3,0.15

## R0402 [mm]
pads (2):
  rrect50% 0.49x0.6 smd: 1(-0.457,0) 2(0.457,0)
Top Overlay:
  lines w0.05: -0.95,-0.55 0.95,-0.55 0.95,0.55 -0.95,0.55 -0.95,-0.55
Mechanical 13:
  lines w0.127: -0.53,-0.28 0.53,-0.28 0.53,0.28 -0.53,0.28 -0.53,-0.28
Mechanical 15:
  lines w0.05: -0.95,-0.55 0.95,-0.55 0.95,0.55 -0.95,0.55 -0.95,-0.55
3D body "User Library-R_0402.step": height 0.35, standoff 0, extent -0.5,-0.25 0.5,0.25

## R0603 [mm]
pads (2):
  rrect50% 1.04x1.02 smd: 1(-0.735,0) 2(0.735,0)
Top Overlay:
  lines w0.05: -1.508,-0.761 -1.508,0.761 1.508,0.761 1.508,-0.761 -1.508,-0.761
Mechanical 13:
  lines w0.127: -0.9,-0.51 -0.9,0.51 0.9,0.51 0.9,-0.51 -0.9,-0.51
Mechanical 15:
  lines w0.05: -1.508,-0.761 -1.508,0.761 1.508,0.761 1.508,-0.761 -1.508,-0.761
3D body "User Library-R_0603.step": height 0.5, standoff 0, extent -0.8,-0.45 0.8,0.45

## R0805 [mm]
pads (2):
  rrect25% 0.92x1.38 smd: 1(-0.955,0) 2(0.955,0)
Top Overlay:
  lines w0.05: -1.666,-0.889 1.664,-0.889 1.664,0.889 -1.666,0.889 -1.666,-0.889
Mechanical 13:
  lines w0.127: -1,-0.625 -1,0.625 1,0.625 1,-0.625 -1,-0.625
Mechanical 15:
  lines w0.05: -1.665,-0.889 1.665,-0.889 1.665,0.889 -1.665,0.889 -1.665,-0.889
3D body "User Library-R_0805.step": height 0.5, standoff 0, extent -1,-0.625 1,0.625

## R1206 [mm]
pads (2):
  rrect50% 1.6x1.8 smd: 1(-1.4,0) 2(1.4,0)
Top Overlay:
  lines w0.051: -2.423,-1.133 -2.423,1.133 2.423,1.133 2.423,-1.133 -2.423,-1.133
Mechanical 13:
  lines w0.102: -0.965,-0.787 -0.965,0.787 0.965,0.787 0.965,-0.787 -0.965,-0.787
Mechanical 15:
  lines w0.051: -2.423,-1.133 -2.423,1.133 2.423,1.133 2.423,-1.133 -2.423,-1.133
3D body "User Library-R_1206.step": height 0.6, standoff 0, extent -1.6,-0.8 1.6,0.8

## R1210 [mm]
pads (2):
  rrect50% 1.07x2.77 smd: 1(-1.43,0) 2(1.43,0)
Top Overlay:
  lines w0.05: -2.215,-1.635 -2.215,1.635 2.215,1.635 2.215,-1.635 -2.215,-1.635
Mechanical 13:
  lines w0.127: -1.6,-1.38 -1.6,1.38 1.6,1.38 1.6,-1.38 -1.6,-1.38
Mechanical 15:
  lines w0.05: -2.215,-1.635 -2.215,1.635 2.215,1.635 2.215,-1.635 -2.215,-1.635
3D body "User Library-R_1210.step": height 0.6, standoff 0, extent -1.6,-1.25 1.6,1.25

## R2010 [mm]
pads (2):
  rrect50% 1.07x2.67 smd: 1(-2.38,0) 2(2.38,0)
Top Overlay:
  lines w0.05: -3.165,-1.585 3.165,-1.585 3.165,1.585 -3.165,1.585 -3.165,-1.585
Mechanical 13:
  lines w0.127: -2.55,-1.32 2.55,-1.32 2.55,1.32 -2.55,1.32 -2.55,-1.32
Mechanical 15:
  lines w0.05: -3.165,-1.585 3.165,-1.585 3.165,1.585 -3.165,1.585 -3.165,-1.585
3D body "User Library-R_2010.step": height 0.6, standoff 0, extent -2.5,-1.25 2.5,1.25